# Altium schematic symbol library SSW-110-01-G-D.SCHLIB: 1 symbol
Pins are listed as number, name and electrical type; pins without a type are passive.

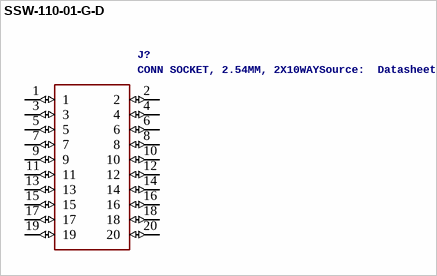
[diagram p0: symbol SSW-110-01-G-D]

## SSW-110-01-G-D
designator J?, comment CONN SOCKET, 2.54MM, 2X10WAYSource:  Datasheet
Manufacturer_Name: SAMTEC; GateName_1: G$1; SymbolName_1: SSW-110-01-G-D; LibraryName: SSW-110-01-G-D; DeviceSetName: SSW-110-01-G-D; Package: SAMTEC_SSW-110-01-G; Manufacturer_Part_Number: SSW-110-01-G-D; RS_Part_Number: 7655727P; RS_Price-Stock: http://uk.rs-online.com/web/p/products/7655727P; Arrow_Part_Number: SSW-110-01-G-D; Arrow_Price-Stock: https://www.arrow.com/en/products/ssw-110-01-g-d/samtec; Description: CONN SOCKET, 2.54MM, 2X10WAY; Height: mm
footprint SAMTEC_SSW-110-01-G
pins: 1 (io), 2 (io), 3 (io), 4 (io), 5 (io), 6 (io), 7 (io), 8 (io), 9 (io), 10 (io), 11 (io), 12 (io), 13 (io), 14 (io), 15 (io), 16 (io), 17 (io), 18 (io), 19 (io), 20 (io)